# EAGLE library part CAT3_6PPC (library SSI)
Right Angle CAT3 Connector - 6 positions, 6 conductors.
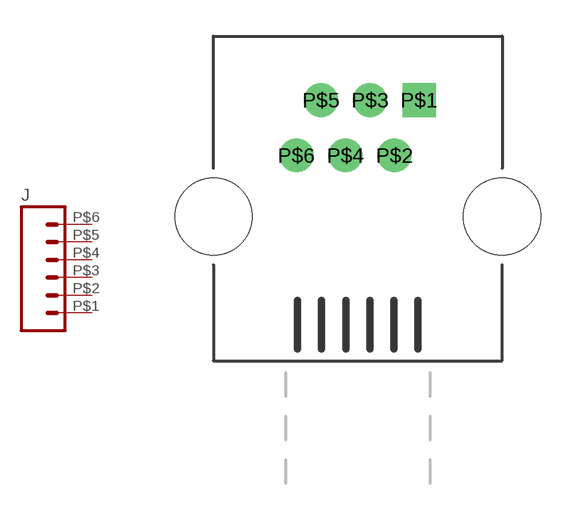
[diagram p37: symbol with the pads of CAT3_6P6C_RA; footprint CAT3_6P6C_RA]

Designator prefix J

## CAT3_6PPC_RA  [CAT3_6P6C_RA]
P$1  1  pas
P$2  2  pas
P$3  3  pas
P$4  4  pas
P$5  5  pas
P$6  6  pas

## Footprint CAT3_6P6C_RA (pad centres in mm)
Right Angle CAT3 Connector - 6 positions, 6 conductors. Pulse Electronics Corporation E5566-Q0LK22-L D/K: 553-2258-ND
drill 0.9 square: P$1 2.55,4.84
drill 0.9: P$2 1.53,2.54; P$3 0.51,4.84; P$4 -0.51,2.54; P$5 -1.53,4.84; P$6 -2.55,2.54
hole 3.2 at -6,0
hole 3.2 at 6,0